# EAGLE library part TLV2760 (library iBionics)
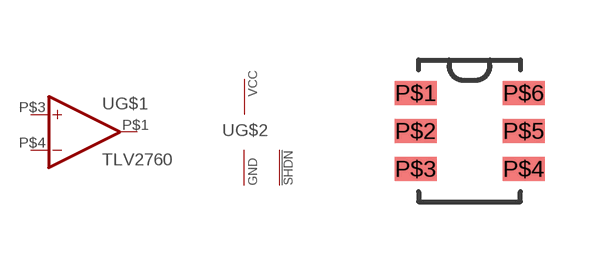
[diagram p42: symbol with the pads of TLV2760; footprint TLV2760]

Designator prefix -; gates G$1=OP-AMP G$2=PWR_PINS_SHDN

## TLV2760DBV  [TLV2760]
P$1  G$1:OUT  out
P$2  G$2:GND  pwr
P$3  G$1:+IN  in
P$4  G$1:-IN  in
P$5  G$2:!SHDN!  in
P$6  G$2:VCC  pwr

## Footprint TLV2760 (pad centres in mm)
smd 1.05 x 0.6: P$1 -1.35,0.95; P$2 -1.35,0; P$3 -1.35,-0.95; P$4 1.35,-0.95; P$5 1.35,0; P$6 1.35,0.95